# EAGLE library part RGBLED (library GadgetFactory_v1)
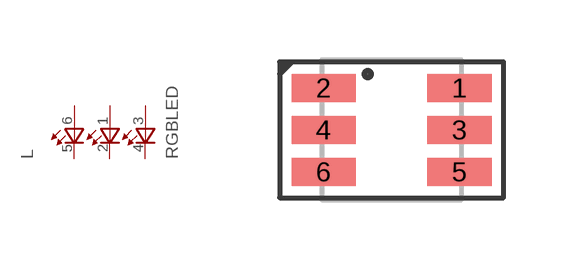
[diagram p56: symbol with the pads of LED3535; footprint LED3535]

Designator prefix L

## RGBLED  [LED3535]
1  ABLUE  pas
2  CBLUE  pas
3  AGREEN  pas
4  CGREEN  pas
5  CRED  pas
6  ARED  pas

## Footprint LED3535 (pad centres in mm)
smd 1.6 x 0.7: 1 1.7,1.05; 2 -1.7,1.05; 3 1.7,0; 4 -1.7,0; 5 1.7,-1.05; 6 -1.7,-1.05